# Altium footprint library PcbLib_Source_IoT.PcbLib: 12 footprints
Each footprint in its own frame and in the unit in brackets; x right, y up, seen from the top. Pads: shape width x height; smd on the part's side, far side on the other; paste and mask are expansions set on the pad; w line width, h text height; cw(c..) or ccw(c..) is an arc to the next point about the centre after c.
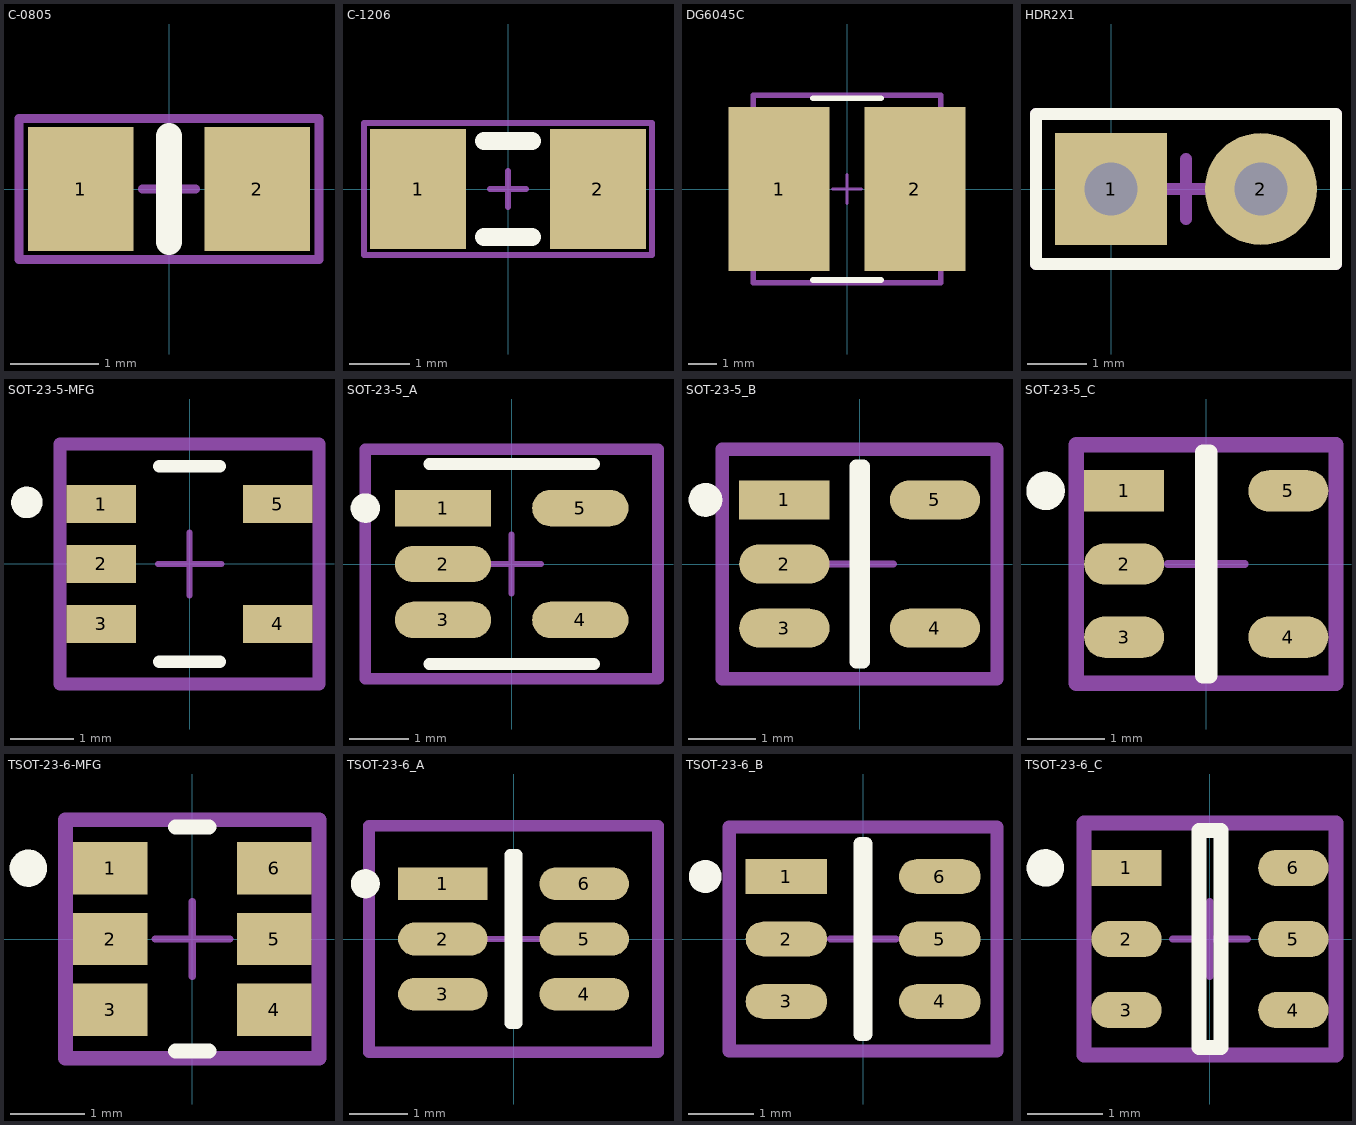
[diagram p0: the footprints below, top view; thin cyan lines are the x and y axes]

## C-0805 [mm]
pads (2):
  rect 1.2x1.4 smd: 1(-1,0) 2(1,0)
Top Overlay:
  lines w0.3: 0,-0.6 0,0.6
Top Assembly:
  lines w0.1: -1.7,-0.8 -1.7,0.8 1.7,0.8 1.7,-0.8 -1.7,-0.8
  text "'.Designator'" at -1.4,-0.275 h1.2
Mechanical:
  lines w0.1: -0.3,0 0.3,0 ; 0,-0.3 0,0.3 ; -1.7,-0.8 -1.7,0.8 1.7,0.8 1.7,-0.8 -1.7,-0.8
3D body "User Library-Ceramic_Capacitor_0805_h32mil.STEP": height 0.81, standoff 0.01, extent -1,-0.625 1,0.625

## C-1206 [mm]
pads (2):
  rect 1.6x2 smd: 1(-1.5,0) 2(1.5,0)
Top Overlay:
  lines w0.3: -0.4,-0.8 0.4,-0.8 ; -0.4,0.8 0.4,0.8
Top Assembly:
  lines w0.1: -2.4,-1.1 -2.4,1.1 2.4,1.1 2.4,-1.1 -2.4,-1.1
  text "'.Designator'" at -1.8,-0.275 h1.2
Mechanical:
  lines w0.1: -0.3,0 0.3,0 ; 0,-0.3 0,0.3 ; -2.4,-1.1 -2.4,1.1 2.4,1.1 2.4,-1.1 -2.4,-1.1
3D body "User Library-Ceramic_Capacitor_1206_h46mil.STEP": height 1.16, standoff 0.01, extent -1.6,-0.8 1.6,0.8

## DG6045C [mm]
pads (2):
  rect 3.5x5.7 smd: 1(-2.35,0.001) 2(2.35,0.001)
Top Overlay:
  lines w0.2: -1.175,-3.15 1.175,-3.15 ; -1.175,3.15 1.175,3.15
Top Assembly:
  lines w0.2: -3.25,-3.249 3.25,-3.249 3.25,3.251 -3.25,3.251 -3.25,-3.249
  text "'.Designator'" at 0,0 h1
Mechanical:
  lines w0.1: -0.5,0 0.5,0 ; 0,-0.5 0,0.5
  lines w0.2: -3.25,-3.249 3.25,-3.249 3.25,3.251 -3.25,3.251 -3.25,-3.249
3D body "Ind_Murata_1255AY-100M=P3_eec.STEP": height 4.5, standoff 0, extent -3,-3 3,3

## HDR2X1 [mm]
pads (2):
  rect 1.9x1.9 hole 0.9: 1(0,0)
  round 1.9 hole 0.9: 2(2.54,0)
Top Overlay:
  lines w0.2: -1.27,-1.27 3.81,-1.27 3.81,1.27 -1.27,1.27 -1.27,-1.27
Top Assembly:
  lines w0.2: -1.27,-1.27 -1.27,1.27 3.81,1.27 3.81,-1.27 -1.27,-1.27
  text "'.Designator'" at -0.762,-0.48 h1.5
Mechanical:
  lines w0.2: 0.762,0 1.778,0 ; 1.27,-0.508 1.27,0.508 ; -1.27,-1.27 3.81,-1.27 3.81,1.27 -1.27,1.27 -1.27,-1.27
3D body "TSW-101-07-G-D.stp": height 8.38, standoff -2.54, extent -1.27,-1.27 3.81,1.27

## SOT-23-5-MFG [mm]
pads (5):
  rect 1.1x0.6 smd paste+0 mask+0: 1(-1.4,0.95) 2(-1.4,0) 3(-1.4,-0.95) 4(1.4,-0.95) 5(1.4,0.95)
Top Overlay:
  circle w0.25: c-2.575,0.975 r0.125
  lines w0.2: -0.475,-1.55 0.475,-1.55 ; -0.475,1.55 0.475,1.55
Top Assembly:
  lines w0.2: -2.05,-1.9 -2.05,1.9 2.05,1.9 2.05,-1.9 -2.05,-1.9
  text ".Designator" at 0,-0.001 h1
Mechanical:
  lines w0.1: -0.5,0 0.5,0 ; 0,-0.5 0,0.5
  lines w0.2: -2.05,-1.9 -2.05,1.9 2.05,1.9 2.05,-1.9 -2.05,-1.9
3D body "MCP73831T-2ACI_OT.step": height 1.45, standoff 0, extent -1.35,-1.45 1.35,1.45

## SOT-23-5_A [mil]
pads (5):
  rect 64.5x24.33 smd paste+0 mask+0: 1(-45.91,37.4)
  rrect100% 64.5x24.33 smd paste+0 mask+0: 2(-45.91,0) 3(-45.91,-37.4) 4(45.91,-37.4) 5(45.91,37.4)
Top Overlay:
  circle w9.84: c-97.85,37.4 r4.92
  lines w7.87: -55.12,-66.93 55.12,-66.93 ; -55.12,66.93 55.12,66.93
Top Assembly:
  lines w7.87: -97.85,-76.77 97.85,-76.77 97.85,76.77 -97.85,76.77 -97.85,-76.77
  text ".Designator" at 0,7.39 h39.37
Mechanical:
  lines w3.94: -19.68,0 19.68,0 ; 0,-19.68 0,19.68
  lines w7.87: -97.85,-76.77 97.85,-76.77 97.85,76.77 -97.85,76.77 -97.85,-76.77
3D body "MCP73831T-2ACI_OT.step": height 57.09, standoff 0, extent -53.15,-57.08 53.15,57.09

## SOT-23-5_B [mm]
pads (5):
  rect 1.338x0.578 smd paste+0 mask+0: 1(-1.116,0.95)
  rrect100% 1.338x0.578 smd paste+0 mask+0: 2(-1.116,0) 3(-1.116,-0.95) 4(1.116,-0.95) 5(1.116,0.95)
Top Overlay:
  circle w0.25: c-2.285,0.95 r0.125
  lines w0.2: -0.053,-1.45 -0.053,1.45 0.053,1.45 0.053,-1.45 -0.053,-1.45
Top Assembly:
  lines w0.2: -2.035,-1.7 2.035,-1.7 2.035,1.7 -2.035,1.7 -2.035,-1.7
  text ".Designator" at 0,0.188 h1
Mechanical:
  lines w0.1: -0.5,0 0.5,0 ; 0,-0.5 0,0.5
  lines w0.2: -2.035,-1.7 2.035,-1.7 2.035,1.7 -2.035,1.7 -2.035,-1.7
3D body "MCP73831T-2ACI_OT.step": height 1.45, standoff 0, extent -1.35,-1.45 1.35,1.45

## SOT-23-5_C [mm]
pads (5):
  rect 1.038x0.538 smd paste+0 mask+0: 1(-1.066,0.95)
  rrect100% 1.038x0.538 smd paste+0 mask+0: 2(-1.066,0) 3(-1.066,-0.95) 4(1.066,-0.95) 5(1.066,0.95)
Top Overlay:
  circle w0.25: c-2.085,0.95 r0.125
  lines w0.2: -0.047,-1.45 -0.047,1.45 0.047,1.45 0.047,-1.45 -0.047,-1.45
Top Assembly:
  lines w0.2: -1.685,-1.55 -1.685,1.55 1.685,1.55 1.685,-1.55 -1.685,-1.55
  text ".Designator" at 0,0.188 h1
Mechanical:
  lines w0.1: -0.5,0 0.5,0 ; 0,-0.5 0,0.5
  lines w0.2: -1.685,-1.55 -1.685,1.55 1.685,1.55 1.685,-1.55 -1.685,-1.55
3D body "MCP73831T-2ACI_OT.step": height 1.45, standoff 0, extent -1.35,-1.45 1.35,1.45

## TSOT-23-6-MFG [mm]
pads (6):
  rect 1x0.7 smd paste+0 mask+0: 1(-1.099,0.95) 2(-1.099,0) 3(-1.099,-0.95) 4(1.099,-0.95) 5(1.099,0) 6(1.099,0.95)
Top Overlay:
  circle w0.25: c-2.2,0.95 r0.125
  lines w0.2: -0.225,-1.5 0.225,-1.5 ; -0.225,1.5 0.225,1.5
Top Assembly:
  lines w0.2: -1.699,-1.6 1.699,-1.6 1.699,1.6 -1.699,1.6 -1.699,-1.6
  text ".Designator" at 0,0.188 h1
Mechanical:
  lines w0.1: -0.5,0 0.5,0 ; 0,-0.5 0,0.5
  lines w0.2: -1.699,-1.6 1.699,-1.6 1.699,1.6 -1.699,1.6 -1.699,-1.6
3D body "IC_Diodes_Inc_AP63205WU-7_eec.STEP": height 0.25, standoff 0, extent -1.699,-1.6 1.699,1.6

## TSOT-23-6_A [mm]
pads (6):
  rect 1.54x0.566 smd paste+0 mask+0: 1(-1.216,0.95)
  rrect100% 1.54x0.566 smd paste+0 mask+0: 2(-1.216,0) 3(-1.216,-0.95) 4(1.216,-0.95) 5(1.216,0) 6(1.216,0.95)
Top Overlay:
  circle w0.25: c-2.55,0.95 r0.125
  lines w0.2: -0.054,-1.45 -0.054,1.45 0.054,1.45 0.054,-1.45 -0.054,-1.45
Top Assembly:
  lines w0.2: -2.485,-1.95 -2.485,1.95 2.485,1.95 2.485,-1.95 -2.485,-1.95
  text ".Designator" at 0,0.188 h1
Mechanical:
  lines w0.1: -0.5,0 0.5,0 ; 0,-0.5 0,0.5
  lines w0.2: -2.485,-1.95 2.485,-1.95 ; -2.485,-1.95 -2.485,1.95 2.485,1.95 2.485,-1.95 ; -2.485,-1.95 2.485,-1.95
3D body "IC_Diodes_Inc_AP63205WU-7_eec.STEP": height 0.25, standoff 0, extent -2.485,-1.95 2.485,1.95

## TSOT-23-6_B [mm]
pads (6):
  rect 1.24x0.526 smd paste+0 mask+0: 1(-1.165,0.95)
  rrect100% 1.24x0.526 smd paste+0 mask+0: 2(-1.165,0) 3(-1.165,-0.95) 4(1.166,-0.95) 5(1.166,0) 6(1.166,0.95)
Top Overlay:
  circle w0.25: c-2.4,0.95 r0.125
  lines w0.2: -0.046,-1.45 -0.046,1.45 0.046,1.45 0.046,-1.45 -0.046,-1.45
Top Assembly:
  lines w0.2: -2.035,-1.7 -2.035,1.7 2.035,1.7 2.035,-1.7 -2.035,-1.7
  text ".Designator" at 0,0.188 h1
Mechanical:
  lines w0.1: -0.5,0 0.5,0 ; 0,-0.5 0,0.5
  lines w0.2: -2.035,-1.7 -2.035,1.7 2.035,1.7 2.035,-1.7 -2.035,-1.7
3D body "IC_Diodes_Inc_AP63205WU-7_eec.STEP": height 0.25, standoff 0, extent -2.035,-1.7 2.035,1.7

## TSOT-23-6_C [mm]
pads (6):
  rect 0.94x0.486 smd paste+0 mask+0: 1(-1.115,0.95)
  rrect100% 0.94x0.486 smd paste+0 mask+0: 2(-1.115,0) 3(-1.115,-0.95) 4(1.116,-0.95) 5(1.116,0) 6(1.116,0.95)
Top Overlay:
  circle w0.25: c-2.2,0.95 r0.125
  lines w0.2: -0.146,-1.45 0.146,-1.45 0.146,1.45 -0.146,1.45 -0.146,-1.45
Top Assembly:
  lines w0.2: -1.685,-1.55 1.685,-1.55 1.685,1.55 -1.685,1.55 -1.685,-1.55
  text ".Designator" at 0,0.188 h1
Mechanical:
  lines w0.1: -0.5,0 0.5,0 ; 0,-0.5 0,0.5
  lines w0.2: -1.685,-1.55 1.685,-1.55 1.685,1.55 -1.685,1.55 -1.685,-1.55
3D body "IC_Diodes_Inc_AP63205WU-7_eec.STEP": height 0.25, standoff 0, extent -1.685,-1.55 1.685,1.55